# EAGLE library part MICROBUILDER_ICM-20649 (library Adaruit ICM20649)
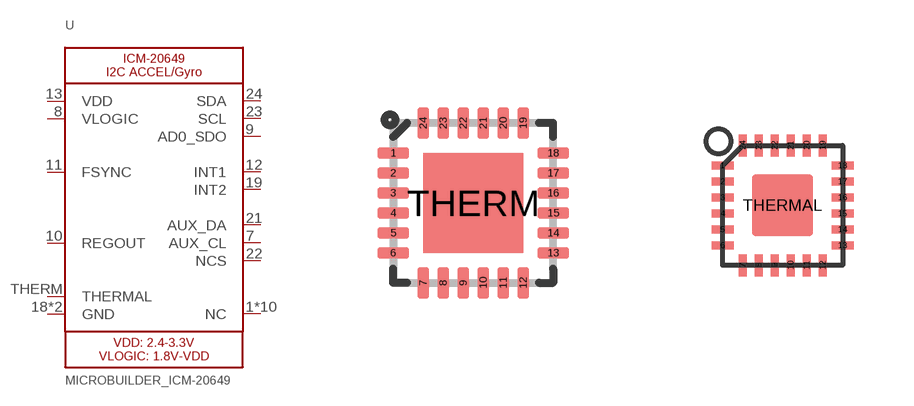
[diagram p1: symbol with the pads of MICROBUILDER_QFN24_4MM_SMSC; footprints MICROBUILDER_QFN24_4MM_SMSC, MICROBUILDER_QFN24_3MM]

Designator prefix -

## MICROBUILDER_ICM-20649  [MICROBUILDER_QFN24_4MM_SMSC]
1  NC  nc
2  NC  nc
3  NC  nc
4  NC  nc
5  NC  nc
6  NC  nc
7  AUX_CL
8  VLOGIC  pwr
9  AD0_SDO  in
10  REGOUT  pas
11  FSYNC  in
12  INT1  out
13  VDD  pwr
14  NC  nc
15  NC  nc
16  NC  nc
17  NC  nc
18  GND  pwr
19  INT2  out
20  GND  pwr
21  AUX_DA
22  NCS  in
23  SCL
24  SDA
THERM  THERMAL  pwr

## MICROBUILDER_ICM-20649QFN3MM  [MICROBUILDER_QFN24_3MM]
1  NC  nc
2  NC  nc
3  NC  nc
4  NC  nc
5  NC  nc
6  NC  nc
7  AUX_CL
8  VLOGIC  pwr
9  AD0_SDO  in
10  REGOUT  pas
11  FSYNC  in
12  INT1  out
13  VDD  pwr
14  NC  nc
15  NC  nc
16  NC  nc
17  NC  nc
18  GND  pwr
19  INT2  out
20  GND  pwr
21  AUX_DA
22  NCS  in
23  SCL
24  SDA
THERMAL  THERMAL  pwr

## Footprint MICROBUILDER_QFN24_4MM_SMSC (pad centres in mm)
smd 0.8 x 0.28: 1 -2,1.25; 2 -2,0.75; 3 -2,0.25; 4 -2,-0.25; 5 -2,-0.75; 6 -2,-1.25; 13 2,-1.25; 14 2,-0.75; 15 2,-0.25; 16 2,0.25; 17 2,0.75; 18 2,1.25
smd 0.28 x 0.8: 7 -1.25,-2; 8 -0.75,-2; 9 -0.25,-2; 10 0.25,-2; 11 0.75,-2; 12 1.25,-2; 19 1.25,2; 20 0.75,2; 21 0.25,2; 22 -0.25,2; 23 -0.75,2; 24 -1.25,2
smd 2.5 x 2.5: THERM 0,0

## Footprint MICROBUILDER_QFN24_3MM (pad centres in mm)
smd 0.55 x 0.2: 1 -1.5,1; 2 -1.5,0.6; 3 -1.5,0.2; 4 -1.5,-0.2; 5 -1.5,-0.6; 6 -1.5,-1; 13 1.5,-1; 14 1.5,-0.6; 15 1.5,-0.2; 16 1.5,0.2; 17 1.5,0.6; 18 1.5,1
smd 0.2 x 0.55: 7 -1,-1.5; 8 -0.6,-1.5; 9 -0.2,-1.5; 10 0.2,-1.5; 11 0.6,-1.5; 12 1,-1.5; 19 1,1.5; 20 0.6,1.5; 21 0.2,1.5; 22 -0.2,1.5; 23 -0.6,1.5; 24 -1,1.5
smd 1.54 x 1.54: THERMAL 0,0